# Altium footprint library X9C103S.PcbLib: 1 footprints
Each footprint in its own frame and in the unit in brackets; x right, y up, seen from the top. Pads: shape width x height; smd on the part's side, far side on the other; paste and mask are expansions set on the pad; w line width, h text height; cw(c..) or ccw(c..) is an arc to the next point about the centre after c.
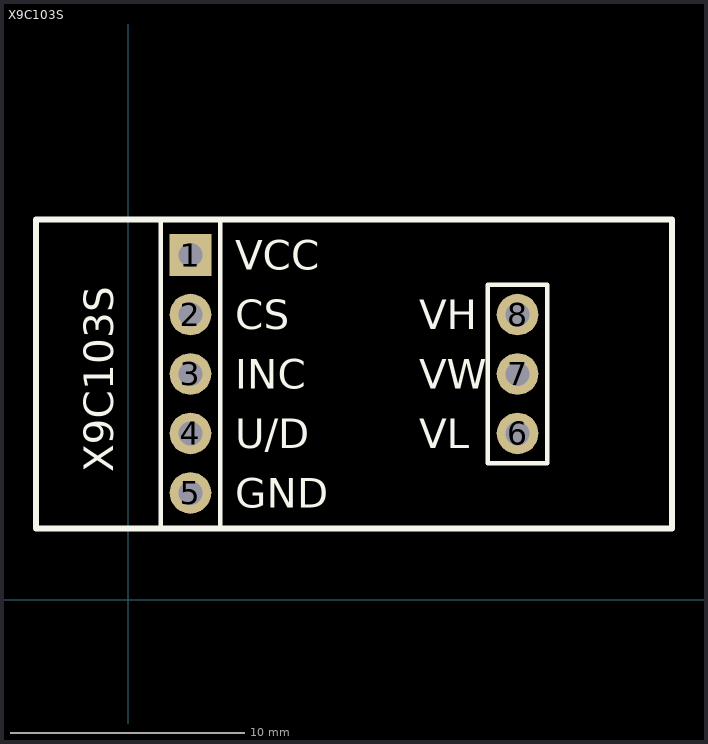
[diagram p0: the footprint, top view; thin cyan lines are the x and y axes]

## X9C103S [mil]
pads (8):
  rect 70x70 hole 40: 1(105,580)
  round 70 hole 40: 2(105,480) 3(105,380) 4(105,280) 5(105,180) 6(655,280) 7(655,380) 8(655,480)
Top Overlay:
  lines w7.87: 55,120 55,640 155,640 155,120 55,120 ; 605,230 605,530 705,530 705,230 605,230
  lines w10: -155,120 915,120 915,640 -155,640 -155,120
  text "X9C103S" at -25,215 h50
  text "VCC" at 180,555 h50
  text "CS" at 180,455 h50
  text "INC" at 180,355 h50
  text "U/D" at 180,255 h50
  text "GND" at 180,155 h50
  text "VH" at 490,455 h50
  text "VW" at 490,355 h50
  text "VL" at 490,255 h50
3D body "X9C103S.STEP": height 204.7, standoff 121.23, extent -151.5,125 911.5,636.81